# Altium footprint library 8-8控制板1.PcbLib: 26 footprints (part 2 of 2)
Each footprint in its own frame and in the unit in brackets; x right, y up, seen from the top. Pads: shape width x height; smd on the part's side, far side on the other; paste and mask are expansions set on the pad; w line width, h text height; cw(c..) or ccw(c..) is an arc to the next point about the centre after c.
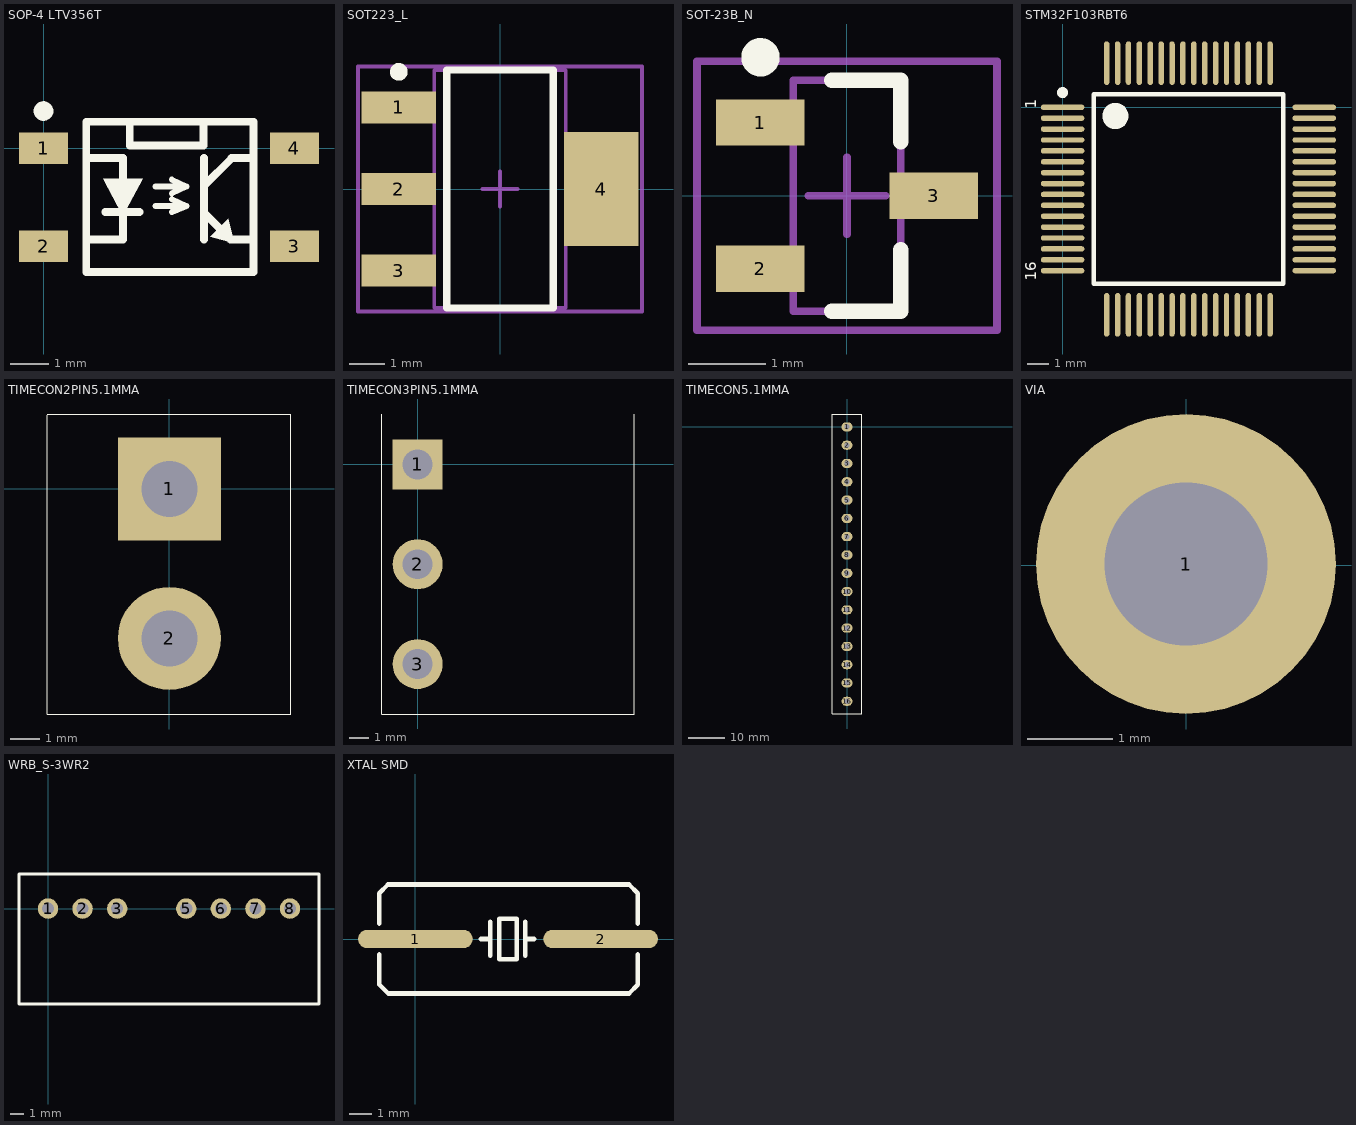
[diagram p1: the footprints below, top view; thin cyan lines are the x and y axes]

## SOP-4 LTV356T [mil]
pads (4):
  rect 50x32 smd: 1(0,0) 2(0,-100) 3(255.91,-100) 4(255.91,0)
Top Overlay:
  circle w10: c0,38 r5
  region: 60.69,-31 101.31,-31 81,-69
  region: 170,-90 188.41,-71.59 194.72,-96.58
  lines w6: 114,-59 145.8,-59 ; 114,-39 145.8,-39 ; 130.8,-65 145.8,-59 ; 130.8,-52 145.8,-59 ; 130.8,-46 145.8,-39 ; 130.8,-32 145.8,-39
  lines w8: 43.56,-93 81,-93 81,-10 43.56,-10 ; 63,-65 98,-65 ; 88,27 88,3 163,3 163,27 ; 163.8,-93 163.8,-10 ; 163.8,-66 190.8,-93 214.03,-93 ; 163.8,-38 191.8,-10 214.03,-10 ; 43.56,-126 214.03,-126 214.03,27 43.56,27 43.56,-126

## SOT223_L [mm]
pads (4):
  rect 2.1x0.9 smd: 1(-2.85,2.3) 2(-2.85,0) 3(-2.85,-2.3)
  rect 2.1x3.2 smd: 4(2.85,0)
Top Overlay:
  circle w0.25: c-2.85,3.3 r0.125
  lines w0.2: -1.5,-3.35 -1.5,3.35 1.5,3.35 1.5,-3.35 -1.5,-3.35
Mechanical 13:
  lines w0.1: -1.85,-3.35 -1.85,3.35 1.85,3.35 1.85,-3.35 -1.85,-3.35
Mechanical 15:
  lines w0.1: -0.5,0 0.5,0 ; 0,-0.5 0,0.5 ; -4,-3.45 -4,3.45 4,3.45 4,-3.45 -4,-3.45
3D body: height 1.7, standoff 0, extent -1.85,-3.35 1.85,3.35

## SOT-23B_N [mm]
pads (3):
  rect 1.15x0.6 smd: 1(-1.125,0.95) 2(-1.125,-0.95) 3(1.125,0)
Top Overlay:
  circle w0.25: c-1.125,1.8 r0.125
  lines w0.2: -0.2,-1.5 0.7,-1.5 0.7,-0.7 ; -0.2,1.5 0.7,1.5 0.7,0.7
Mechanical 13:
  lines w0.1: -0.7,-1.5 0.7,-1.5 0.7,1.5 -0.7,1.5 -0.7,-1.5
Mechanical 15:
  lines w0.1: -0.5,0 0.5,0 ; 0,-0.5 0,0.5 ; -1.95,-1.75 1.95,-1.75 1.95,1.75 -1.95,1.75 -1.95,-1.75
3D body: height 1.14, standoff 0, extent -0.7,-1.5 0.7,1.5

## STM32F103RBT6 [mm]
pads (64):
  oval 2x0.25 smd: 1(0,0) 2(0,-0.5) 3(0,-1) 4(0,-1.5) 5(0,-2) 6(0,-2.5) 7(0,-3) 8(0,-3.5) 9(0,-4) 10(0,-4.5) 11(0,-5) 12(0,-5.5) 13(0,-6) 14(0,-6.5) 15(0,-7) 16(0,-7.5) 33(11.55,-7.5) 34(11.55,-7) 35(11.55,-6.5) 36(11.55,-6) 37(11.55,-5.5) 38(11.55,-5) 39(11.55,-4.5) 40(11.55,-4) 41(11.55,-3.5) 42(11.55,-3) 43(11.55,-2.5) 44(11.55,-2) 45(11.55,-1.5) 46(11.55,-1) 47(11.55,-0.5) 48(11.55,0)
  oval 0.25x2 smd: 17(2.025,-9.525) 18(2.525,-9.525) 19(3.025,-9.525) 20(3.525,-9.525) 21(4.025,-9.525) 22(4.525,-9.525) 23(5.025,-9.525) 24(5.525,-9.525) 25(6.025,-9.525) 26(6.525,-9.525) 27(7.025,-9.525) 28(7.525,-9.525) 29(8.025,-9.525) 30(8.525,-9.525) 31(9.025,-9.525) 32(9.525,-9.525) 49(9.525,2.025) 50(9.025,2.025) 51(8.525,2.025) 52(8.025,2.025) 53(7.525,2.025) 54(7.025,2.025) 55(6.525,2.025) 56(6.025,2.025) 57(5.525,2.025) 58(5.025,2.025) 59(4.525,2.025) 60(4.025,2.025) 61(3.525,2.025) 62(3.025,2.025) 63(2.525,2.025) 64(2.025,2.025)
Top Overlay:
  circle w0.25: c0,0.675 r0.125
  circle w0.6: c2.425,-0.4 r0.3
  lines w0.203: 1.425,-8.1 1.425,0.6 10.125,0.6 10.125,-8.1 1.425,-8.1
  text "16" at -1.219,-7.95 h0.51
  text "1" at -1.219,-0.076 h0.51

## TIMECON2PIN5.1MMA [mm]
pads (2):
  rect 3.5x3.5 hole 1.9: 1(0,0)
  round 3.5 hole 1.9: 2(0,-5.08)
Top Overlay:
  lines w0.025: -4.14,2.489 -4.14,-7.645 4.115,-7.645 4.115,2.54 -4.14,2.54

## TIMECON3PIN5.1MMA [mil]
pads (3):
  rect 100x100 hole 60: 1(0,0)
  round 100 hole 60: 2(0,-200) 3(0,-400)
Top Overlay:
  lines w1: -72,101 -72,-500 434,-500 434,101

## TIMECON5.1MMA [mil]
pads (16):
  oval 120x100 hole 60: 1(0,0) 2(0,-200) 3(0,-400) 4(0,-600) 5(0,-800) 6(0,-1000) 7(0,-1200) 8(0,-1400) 9(0,-1600) 10(0,-1800) 11(0,-2000) 12(0,-2200) 13(0,-2400) 14(0,-2600) 15(0,-2800) 16(0,-3000)
Top Overlay:
  lines w1: -162,-7 -162,141 162,141 162,-3139 -161,-3139 -161,-1

## VIA [mm]
pads (1):
  round 3.5 hole 1.9: 1(0,0.015)
Top Overlay:
  circle w0.254: c-0.005,0.003 r1.469

## WRB_S-3WR2 [mil]
pads (7):
  round 59 hole 35: 1(0,0) 2(100,0) 3(200,0) 5(400,0) 6(500,0) 7(600,0) 8(700,0)
Top Overlay:
  lines w8: -84,-276 784,-276 784,100 -84,100 -84,-276

## XTAL SMD [mil]
pads (2):
  oval 200x32 smd: 1(0,0) 2(322.83,0)
Top Overlay:
  lines w8: -62.76,-27 -62.76,-79.24 -47,-95 372.24,-95 387.24,-80 387.24,-27 ; -62.76,27 -62.76,80 -47.76,95 372.24,95 387.24,80 387.24,27 ; 114.42,0 130.42,0 ; 130.42,-29 130.42,30 ; 191.42,-29 191.42,30 ; 191.42,0 207.42,0 ; 146,-35 146,35 177,35 177,-35 146,-35